# Altium schematic symbol library BUK9880-55A.Schlib: 1 symbol
Pins are listed as number, name and electrical type; pins without a type are passive.

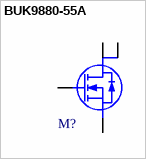
[diagram p0: symbol BUK9880-55A]

## BUK9880-55A
designator M?
55V 7A N-Channel
pins: 1 G, 2 D, 3 S, 4 D